# Altium schematic symbol library WCAP-PHGP.SchLib: 14 symbols
Pins are listed as number, name and electrical type; pins without a type are passive.

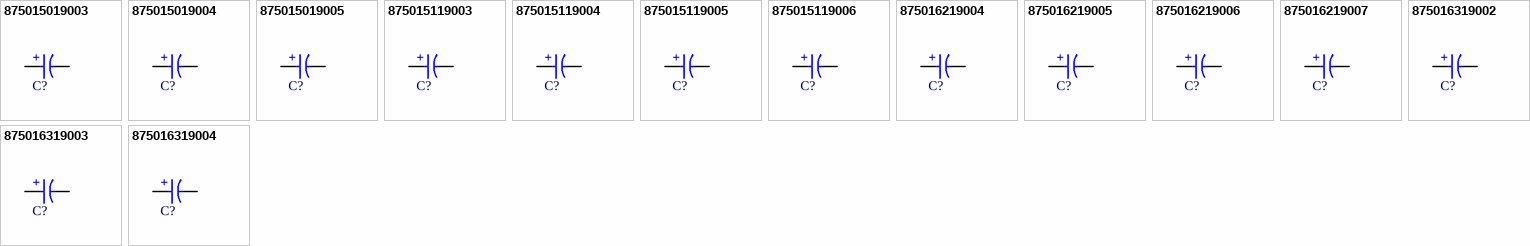
[diagram p0: symbols 875015019003 to 875016319004]

## 875015019003
designator C?, comment 180µF  (value not drawn)
WCAP-PHGP Aluminum Polymer Capacitor, H-Chip, SMT, L7.3 x W4.3 x H1.9mm, 180µF, 4V; Manufacturer Part Number: 875015019003; Manufacturer: Wurth Elektronik; Capacitance Tolerance: +/-20%; Dissipation Factor: 6%; Endurance: 2000h; ESR: 12mΩ; Leakage Current: 72µA; Ripple Current: 5600mA; Technical Reference: PSE2917181M004DHCT2HT19; Category: Aluminum Polymer Capacitors; Match Code: WCAP-PHGP; ComponentLink1Description: Website Link; ComponentLink1URL: https://www.we-online.com/redexpert/article/875015019003?ad; ComponentLink2Description: Datasheet Link; ComponentLink2URL: https://www.we-online.com/redexpert/spec/875015019003?ad; Mount: Surface Mount; Operating Temperature Max: 105°C; Operating Temperature Min: -55°C; Packaging: Tape and Reel; Length: 7.3mm; Width: 4.3mm; Height: 1.9mm; Capacitance: 180µF; Rated Voltage (DC): 4V
footprint WCAP-PHGP_L7.3W4.3H1.9
simulation model 875015019003_180uF
pins: 1 P, 2 N
text: +

## 875015019004
designator C?, comment 220µF  (value not drawn)
WCAP-PHGP Aluminum Polymer Capacitor, H-Chip, SMT, L7.3 x W4.3 x H1.9mm, 220µF, 4V; Manufacturer Part Number: 875015019004; Manufacturer: Wurth Elektronik; Capacitance Tolerance: +/-20%; Dissipation Factor: 6%; Endurance: 2000h; ESR: 12mΩ; Leakage Current: 88µA; Ripple Current: 5600mA; Technical Reference: PSE2917221M004DHCT2HT19; Category: Aluminum Polymer Capacitors; Match Code: WCAP-PHGP; ComponentLink1Description: Website Link; ComponentLink1URL: https://www.we-online.com/redexpert/article/875015019004?ad; ComponentLink2Description: Datasheet Link; ComponentLink2URL: https://www.we-online.com/redexpert/spec/875015019004?ad; Mount: Surface Mount; Operating Temperature Max: 105°C; Operating Temperature Min: -55°C; Packaging: Tape and Reel; Length: 7.3mm; Width: 4.3mm; Height: 1.9mm; Capacitance: 220µF; Rated Voltage (DC): 4V
footprint WCAP-PHGP_L7.3W4.3H1.9
simulation model 875015019004_220uF
pins: 1 P, 2 N
text: +

## 875015019005
designator C?, comment 330µF  (value not drawn)
WCAP-PHGP Aluminum Polymer Capacitor, H-Chip, SMT, L7.3 x W4.3 x H1.9mm, 330µF, 4V; Manufacturer Part Number: 875015019005; Manufacturer: Wurth Elektronik; Capacitance Tolerance: +/-20%; Dissipation Factor: 6%; Endurance: 2000h; ESR: 15mΩ; Leakage Current: 132µA; Ripple Current: 5100mA; Technical Reference: PSE2917331M004DHCT2HT19; Category: Aluminum Polymer Capacitors; Match Code: WCAP-PHGP; ComponentLink1Description: Website Link; ComponentLink1URL: https://www.we-online.com/redexpert/article/875015019005?ad; ComponentLink2Description: Datasheet Link; ComponentLink2URL: https://www.we-online.com/redexpert/spec/875015019005?ad; Mount: Surface Mount; Operating Temperature Max: 105°C; Operating Temperature Min: -55°C; Packaging: Tape and Reel; Length: 7.3mm; Width: 4.3mm; Height: 1.9mm; Capacitance: 330µF; Rated Voltage (DC): 4V
footprint WCAP-PHGP_L7.3W4.3H1.9
simulation model 875015019005_330uF
pins: 1 P, 2 N
text: +

## 875015119003
designator C?, comment 100µF  (value not drawn)
WCAP-PHGP Aluminum Polymer Capacitor, H-Chip, SMT, L7.3 x W4.3 x H1.9mm, 100µF, 6.3V; Manufacturer Part Number: 875015119003; Manufacturer: Wurth Elektronik; Capacitance Tolerance: +/-20%; Dissipation Factor: 6%; Endurance: 2000h; ESR: 15mΩ; Leakage Current: 63µA; Ripple Current: 5100mA; Technical Reference: PSE2917101M6R3DHCT2HT19; Category: Aluminum Polymer Capacitors; Match Code: WCAP-PHGP; ComponentLink1Description: Website Link; ComponentLink1URL: https://www.we-online.com/redexpert/article/875015119003?ad; ComponentLink2Description: Datasheet Link; ComponentLink2URL: https://www.we-online.com/redexpert/spec/875015119003?ad; Mount: Surface Mount; Operating Temperature Max: 105°C; Operating Temperature Min: -55°C; Packaging: Tape and Reel; Length: 7.3mm; Width: 4.3mm; Height: 1.9mm; Capacitance: 100µF; Rated Voltage (DC): 6.3V
footprint WCAP-PHGP_L7.3W4.3H1.9
simulation model 875015119003_100uF
pins: 1 P, 2 N
text: +

## 875015119004
designator C?, comment 150µF  (value not drawn)
WCAP-PHGP Aluminum Polymer Capacitor, H-Chip, SMT, L7.3 x W4.3 x H1.9mm, 150µF, 6.3V; Manufacturer Part Number: 875015119004; Manufacturer: Wurth Elektronik; Capacitance Tolerance: +/-20%; Dissipation Factor: 6%; Endurance: 2000h; ESR: 12mΩ; Leakage Current: 94.5µA; Ripple Current: 5600mA; Technical Reference: PSE2917151M6R3DHCT2HT19; Category: Aluminum Polymer Capacitors; Match Code: WCAP-PHGP; ComponentLink1Description: Website Link; ComponentLink1URL: https://www.we-online.com/redexpert/article/875015119004?ad; ComponentLink2Description: Datasheet Link; ComponentLink2URL: https://www.we-online.com/redexpert/spec/875015119004?ad; Mount: Surface Mount; Operating Temperature Max: 105°C; Operating Temperature Min: -55°C; Packaging: Tape and Reel; Length: 7.3mm; Width: 4.3mm; Height: 1.9mm; Capacitance: 150µF; Rated Voltage (DC): 6.3V
footprint WCAP-PHGP_L7.3W4.3H1.9
simulation model 875015119004_150uF
pins: 1 P, 2 N
text: +

## 875015119005
designator C?, comment 180µF  (value not drawn)
WCAP-PHGP Aluminum Polymer Capacitor, H-Chip, SMT, L7.3 x W4.3 x H1.9mm, 180µF, 6.3V; Manufacturer Part Number: 875015119005; Manufacturer: Wurth Elektronik; Capacitance Tolerance: +/-20%; Dissipation Factor: 6%; Endurance: 2000h; ESR: 15mΩ; Leakage Current: 113.4µA; Ripple Current: 5100mA; Technical Reference: PSE2917181M6R3DHCT2HT19; Category: Aluminum Polymer Capacitors; Match Code: WCAP-PHGP; ComponentLink1Description: Website Link; ComponentLink1URL: https://www.we-online.com/redexpert/article/875015119005?ad; ComponentLink2Description: Datasheet Link; ComponentLink2URL: https://www.we-online.com/redexpert/spec/875015119005?ad; Mount: Surface Mount; Operating Temperature Max: 105°C; Operating Temperature Min: -55°C; Packaging: Tape and Reel; Length: 7.3mm; Width: 4.3mm; Height: 1.9mm; Capacitance: 180µF; Rated Voltage (DC): 6.3V
footprint WCAP-PHGP_L7.3W4.3H1.9
simulation model 875015119005_180uF
pins: 1 P, 2 N
text: +

## 875015119006
designator C?, comment 220µF  (value not drawn)
WCAP-PHGP Aluminum Polymer Capacitor, H-Chip, SMT, L7.3 x W4.3 x H1.9mm, 220µF, 6.3V; Manufacturer Part Number: 875015119006; Manufacturer: Wurth Elektronik; Capacitance Tolerance: +/-20%; Dissipation Factor: 6%; Endurance: 2000h; ESR: 15mΩ; Leakage Current: 138.6µA; Ripple Current: 5100mA; Technical Reference: PSE2917221M6R3DHCT2HT19; Category: Aluminum Polymer Capacitors; Match Code: WCAP-PHGP; ComponentLink1Description: Website Link; ComponentLink1URL: https://www.we-online.com/redexpert/article/875015119006?ad; ComponentLink2Description: Datasheet Link; ComponentLink2URL: https://www.we-online.com/redexpert/spec/875015119006?ad; Mount: Surface Mount; Operating Temperature Max: 105°C; Operating Temperature Min: -55°C; Packaging: Tape and Reel; Length: 7.3mm; Width: 4.3mm; Height: 1.9mm; Capacitance: 220µF; Rated Voltage (DC): 6.3V
footprint WCAP-PHGP_L7.3W4.3H1.9
simulation model 875015119006_220uF
pins: 1 P, 2 N
text: +

## 875016219004
designator C?, comment 330µF  (value not drawn)
WCAP-PHGP Aluminum Polymer Capacitor, H-Chip, SMT, L7.3 x W4.3 x H1.9mm, 330µF, 2V; Manufacturer Part Number: 875016219004; Manufacturer: Wurth Elektronik; Capacitance Tolerance: +/-20%; Dissipation Factor: 6%; Endurance: 2000h; ESR: 12mΩ; Leakage Current: 66µA; Ripple Current: 5600mA; Technical Reference: PSE2917331M002DHCT2HT19; Category: Aluminum Polymer Capacitors; Match Code: WCAP-PHGP; ComponentLink1Description: Website Link; ComponentLink1URL: https://www.we-online.com/redexpert/article/875016219004?ad; ComponentLink2Description: Datasheet Link; ComponentLink2URL: https://www.we-online.com/redexpert/spec/875016219004?ad; Mount: Surface Mount; Operating Temperature Max: 105°C; Operating Temperature Min: -55°C; Packaging: Tape and Reel; Length: 7.3mm; Width: 4.3mm; Height: 1.9mm; Capacitance: 330µF; Rated Voltage (DC): 2V
footprint WCAP-PHGP_L7.3W4.3H1.9
simulation model 875016219004_330uF
pins: 1 P, 2 N
text: +

## 875016219005
designator C?, comment 390µF  (value not drawn)
WCAP-PHGP Aluminum Polymer Capacitor, H-Chip, SMT, L7.3 x W4.3 x H1.9mm, 390µF, 2V; Manufacturer Part Number: 875016219005; Manufacturer: Wurth Elektronik; Capacitance Tolerance: +/-20%; Dissipation Factor: 6%; Endurance: 2000h; ESR: 15mΩ; Leakage Current: 78µA; Ripple Current: 5100mA; Technical Reference: PSE2917391M002DHCT2HT19; Category: Aluminum Polymer Capacitors; Match Code: WCAP-PHGP; ComponentLink1Description: Website Link; ComponentLink1URL: https://www.we-online.com/redexpert/article/875016219005?ad; ComponentLink2Description: Datasheet Link; ComponentLink2URL: https://www.we-online.com/redexpert/spec/875016219005?ad; Mount: Surface Mount; Operating Temperature Max: 105°C; Operating Temperature Min: -55°C; Packaging: Tape and Reel; Length: 7.3mm; Width: 4.3mm; Height: 1.9mm; Capacitance: 390µF; Rated Voltage (DC): 2V
footprint WCAP-PHGP_L7.3W4.3H1.9
simulation model 875016219005_390uF
pins: 1 P, 2 N
text: +

## 875016219006
designator C?, comment 470µF  (value not drawn)
WCAP-PHGP Aluminum Polymer Capacitor, H-Chip, SMT, L7.3 x W4.3 x H1.9mm, 470µF, 2V; Manufacturer Part Number: 875016219006; Manufacturer: Wurth Elektronik; Capacitance Tolerance: +/-20%; Dissipation Factor: 6%; Endurance: 2000h; ESR: 15mΩ; Leakage Current: 94µA; Ripple Current: 5100mA; Technical Reference: PSE2917471M002DHCT2HT19; Category: Aluminum Polymer Capacitors; Match Code: WCAP-PHGP; ComponentLink1Description: Website Link; ComponentLink1URL: https://www.we-online.com/redexpert/article/875016219006?ad; ComponentLink2Description: Datasheet Link; ComponentLink2URL: https://www.we-online.com/redexpert/spec/875016219006?ad; Mount: Surface Mount; Operating Temperature Max: 105°C; Operating Temperature Min: -55°C; Packaging: Tape and Reel; Length: 7.3mm; Width: 4.3mm; Height: 1.9mm; Capacitance: 470µF; Rated Voltage (DC): 2V
footprint WCAP-PHGP_L7.3W4.3H1.9
simulation model 875016219006_470uF
pins: 1 P, 2 N
text: +

## 875016219007
designator C?, comment 560µF  (value not drawn)
WCAP-PHGP Aluminum Polymer Capacitor, H-Chip, SMT, L7.3 x W4.3 x H1.9mm, 560µF, 2V; Manufacturer Part Number: 875016219007; Manufacturer: Wurth Elektronik; Capacitance Tolerance: +/-20%; Dissipation Factor: 6%; Endurance: 2000h; ESR: 15mΩ; Leakage Current: 112µA; Ripple Current: 5100mA; Technical Reference: PSE2917561M002DHCT2HT19; Category: Aluminum Polymer Capacitors; Match Code: WCAP-PHGP; ComponentLink1Description: Website Link; ComponentLink1URL: https://www.we-online.com/redexpert/article/875016219007?ad; ComponentLink2Description: Datasheet Link; ComponentLink2URL: https://www.we-online.com/redexpert/spec/875016219007?ad; Mount: Surface Mount; Operating Temperature Max: 105°C; Operating Temperature Min: -55°C; Packaging: Tape and Reel; Length: 7.3mm; Width: 4.3mm; Height: 1.9mm; Capacitance: 560µF; Rated Voltage (DC): 2V
footprint WCAP-PHGP_L7.3W4.3H1.9
simulation model 875016219007_560uF
pins: 1 P, 2 N
text: +

## 875016319002
designator C?, comment 330µF  (value not drawn)
WCAP-PHGP Aluminum Polymer Capacitor, H-Chip, SMT, L7.3 x W4.3 x H1.9mm, 330µF, 2.5V; Manufacturer Part Number: 875016319002; Manufacturer: Wurth Elektronik; Capacitance Tolerance: +/-20%; Dissipation Factor: 6%; Endurance: 2000h; ESR: 15mΩ; Leakage Current: 82.5µA; Ripple Current: 5100mA; Technical Reference: PSE2917331M2R5DHCT2HT19; Category: Aluminum Polymer Capacitors; Match Code: WCAP-PHGP; ComponentLink1Description: Website Link; ComponentLink1URL: https://www.we-online.com/redexpert/article/875016319002?ad; ComponentLink2Description: Datasheet Link; ComponentLink2URL: https://www.we-online.com/redexpert/spec/875016319002?ad; Mount: Surface Mount; Operating Temperature Max: 105°C; Operating Temperature Min: -55°C; Packaging: Tape and Reel; Length: 7.3mm; Width: 4.3mm; Height: 1.9mm; Capacitance: 330µF; Rated Voltage (DC): 2.5V
footprint WCAP-PHGP_L7.3W4.3H1.9
simulation model 875016319002_330uF
pins: 1 P, 2 N
text: +

## 875016319003
designator C?, comment 390µF  (value not drawn)
WCAP-PHGP Aluminum Polymer Capacitor, H-Chip, SMT, L7.3 x W4.3 x H1.9mm, 390µF, 2.5V; Manufacturer Part Number: 875016319003; Manufacturer: Wurth Elektronik; Capacitance Tolerance: +/-20%; Dissipation Factor: 6%; Endurance: 2000h; ESR: 15mΩ; Leakage Current: 97.5µA; Ripple Current: 5100mA; Technical Reference: PSE2917391M2R5DHCT2HT19; Category: Aluminum Polymer Capacitors; Match Code: WCAP-PHGP; ComponentLink1Description: Website Link; ComponentLink1URL: https://www.we-online.com/redexpert/article/875016319003?ad; ComponentLink2Description: Datasheet Link; ComponentLink2URL: https://www.we-online.com/redexpert/spec/875016319003?ad; Mount: Surface Mount; Operating Temperature Max: 105°C; Operating Temperature Min: -55°C; Packaging: Tape and Reel; Length: 7.3mm; Width: 4.3mm; Height: 1.9mm; Capacitance: 390µF; Rated Voltage (DC): 2.5V
footprint WCAP-PHGP_L7.3W4.3H1.9
simulation model 875016319003_390uF
pins: 1 P, 2 N
text: +

## 875016319004
designator C?, comment 470µF  (value not drawn)
WCAP-PHGP Aluminum Polymer Capacitor, H-Chip, SMT, L7.3 x W4.3 x H1.9mm, 470µF, 2.5V; Manufacturer Part Number: 875016319004; Manufacturer: Wurth Elektronik; Capacitance Tolerance: +/-20%; Dissipation Factor: 6%; Endurance: 2000h; ESR: 15mΩ; Leakage Current: 117.5µA; Ripple Current: 5100mA; Technical Reference: PSE2917471M2R5DHCT2HT19; Category: Aluminum Polymer Capacitors; Match Code: WCAP-PHGP; ComponentLink1Description: Website Link; ComponentLink1URL: https://www.we-online.com/redexpert/article/875016319004?ad; ComponentLink2Description: Datasheet Link; ComponentLink2URL: https://www.we-online.com/redexpert/spec/875016319004?ad; Mount: Surface Mount; Operating Temperature Max: 105°C; Operating Temperature Min: -55°C; Packaging: Tape and Reel; Length: 7.3mm; Width: 4.3mm; Height: 1.9mm; Capacitance: 470µF; Rated Voltage (DC): 2.5V
footprint WCAP-PHGP_L7.3W4.3H1.9
simulation model 875016319004_470uF
pins: 1 P, 2 N
text: +